# Altium integrated library Resonator-16MHz-CSTNE16M0V53C000R0.IntLib: 1 symbol
Pins are listed as number, name and electrical type; pins without a type are passive.

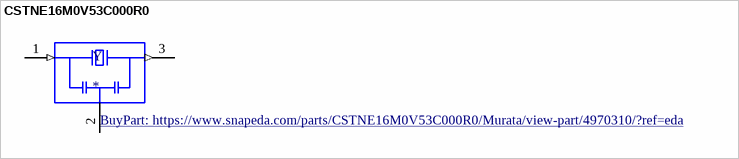
[diagram p0: symbol CSTNE16M0V53C000R0]

## CSTNE16M0V53C000R0
designator Y
16MHz Ceramic Resonator Built in Capacitor 15pF Â±0.15% 40 Ohms -40Â°C ~ 125Â°C Surface Mount; MF: Murata; MP: CSTNE16M0V53C000R0; Package: SMD-3 Murata; DigiKey-Purchase-URL: https://snapeda.com/shop?store=DigiKey&id=4970310; Value: *; Mouser-Purchase-URL: https://snapeda.com/shop?store=Mouser&id=4970310; Availability: Good; SnapEDA_Link: https://www.snapeda.com/parts/CSTNE16M0V53C000R0/Murata/view-part/4970310/?ref=snap; Price: None; BuyPart: https://www.snapeda.com/parts/CSTNE16M0V53C000R0/Murata/view-part/4970310/?ref=eda
footprint OSC_CSTNE16M0V53C000R0
pins: 1 IN (in), 2 GND (power), 3 OUT (out)